# EAGLE library part MDBT42Q_NRF52832 (library MDBT42Q_nrf52832)
The MDBT42Q from seeed studio contains the nrf52832 from nordic And has BLE, NFC and a microcontroller functionality which is perfect for modern close range wireless communication projects.
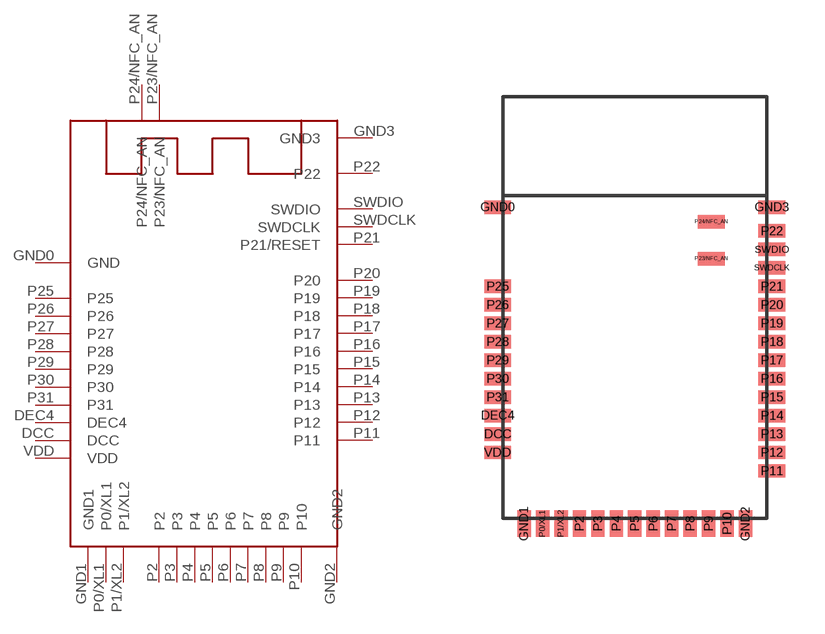
[diagram p0: symbol with the pads of MDBT42Q; footprint MDBT42Q]

Designator prefix -

## MDBT42Q_NRF52832  [MDBT42Q]
DCC  DCC
DEC4  DEC4
GND0  GND
GND1  GND1
GND2  GND2
GND3  GND3
P0/XL1  P0/XL1
P1/XL2  P1/XL2
P2  P2
P3  P3
P4  P4
P5  P5
P6  P6
P7  P7
P8  P8
P9  P9
P10  P10
P11  P11
P12  P12
P13  P13
P14  P14
P15  P15
P16  P16
P17  P17
P18  P18
P19  P19
P20  P20
P21  P21/RESET
P22  P22
P23/NFC_AN  P23/NFC_AN
P24/NFC_AN  P24/NFC_AN
P25  P25
P26  P26
P27  P27
P28  P28
P29  P29
P30  P30
P31  P31
SWDCLK  SWDCLK
SWDIO  SWDIO
VDD  VDD

## Footprint MDBT42Q (pad centres in mm)
smd 1.016 x 0.508: DCC -0.2,3.2; DEC4 -0.2,3.9; GND0 -0.2,11.8; GND3 10.2,11.8; P11 10.2,1.8; P12 10.2,2.5; P13 10.2,3.2; P14 10.2,3.9; P15 10.2,4.6; P16 10.2,5.3; P17 10.2,6; P18 10.2,6.7; P19 10.2,7.4; P20 10.2,8.1; P21 10.2,8.8; P22 10.2,10.9; P23/NFC_AN 7.9,9.85; P24/NFC_AN 7.9,11.25; P25 -0.2,8.8; P26 -0.2,8.1; P27 -0.2,7.4; P28 -0.2,6.7; P29 -0.2,6; P30 -0.2,5.3; P31 -0.2,4.6; SWDCLK 10.2,9.5; SWDIO 10.2,10.2; VDD -0.2,2.5
smd 0.508 x 1.016: GND1 0.8,-0.2; GND2 9.2,-0.2; P0/XL1 1.5,-0.2; P1/XL2 2.2,-0.2; P2 2.9,-0.2; P3 3.6,-0.2; P4 4.3,-0.2; P5 5,-0.2; P6 5.7,-0.2; P7 6.4,-0.2; P8 7.1,-0.2; P9 7.8,-0.2; P10 8.5,-0.2